# EAGLE library part 620108131822 (library Wire-to-Board (rev18a))
WR-WTB 2.00mm SMT Male Horizontal Shrouded Header, 8 Pins=>Code : Con_WTB_2.00_PCB_SMT_620108131822 <http://katalog.we-online.de/media/thumbs2/eican/thb_Con_WTB_2.00_PCB_SMT_6201xx131822_pf2.jpg> Details see: http://katalog.we-online.de/en/em/WTB_2_00_SMT_MALE_HORIZONTAL_SHROUDED_HEADER_6201XX131822 Created 2014-06-05, Karrer Zheng 2014 (C) Würth Elektronik
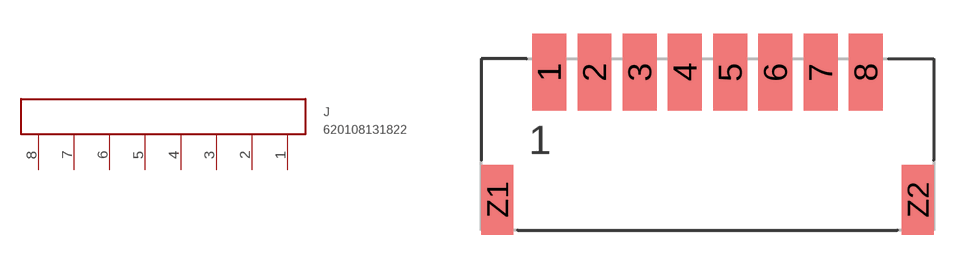
[diagram p42: symbol with the pads of 620108131822; footprint 620108131822]

Designator prefix J

## 620108131822  [620108131822]
1  8  pas
2  7  pas
3  6  pas
4  5  pas
5  4  pas
6  3  pas
7  2  pas
8  1  pas

## Footprint 620108131822 (pad centres in mm)
WR-WTB 2.00mm SMT Male Horizontal Shrouded Header, 8 Pins
smd 1.5 x 3.4: 1 -7,0; 2 -5,0; 3 -3,0; 4 -1,0; 5 1,0; 6 3,0; 7 5,0; 8 7,0
smd 1.4 x 3.1: Z1 -9.3,-5.65; Z2 9.3,-5.65